# EAGLE library part MS5611-01BA03 (library TRC_pressure_transducer)
MS5611-01BA03 - Pressure Transducer Technical Specifications: Pressure Type: Absolute Operating Pressure: 0.15 PSI ~ 17.4 PSI Output Type: I2C, SPI Output: 24 b Accuracy: +/- 0.022 PSI Voltage Supply: 1.8 V ~ 3.6 V Termination Style: Solder Pad Operating Temperature: -40 C ~ 85 C Package: 8-SMD Manufacturer: TE Connectivity Measurement Specialties Digi-key Part Number: 223-1621-ND
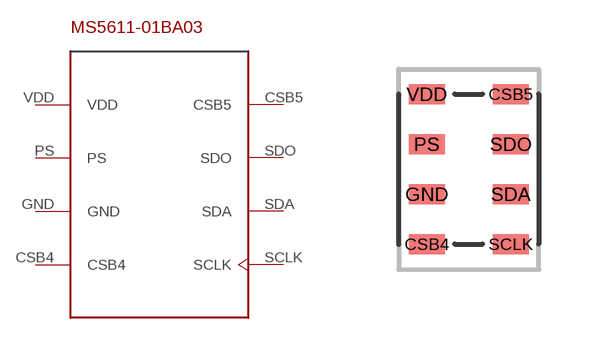
[diagram p0: symbol with the pads of MS5611-01BA03; footprint MS5611-01BA03]

Designator prefix -

## MS5611-01BA03  [MS5611-01BA03]
CSB4  CSB4  in
CSB5  CSB5  out
GND  GND  sup
PS  PS  in
SCLK  SCLK  in
SDA  SDA
SDO  SDO  out
VDD  VDD  pwr

## Footprint MS5611-01BA03 (pad centres in mm)
smd 0.9 x 0.5: CSB4 0,0; CSB5 2.1,3.75; GND 0,1.25; PS 0,2.5; SCLK 2.1,0; SDA 2.1,1.25; SDO 2.1,2.5; VDD 0,3.75